# EAGLE library part ATTINY24A (library usb)
ATTiny24A ATTiny44A ATTiny84A
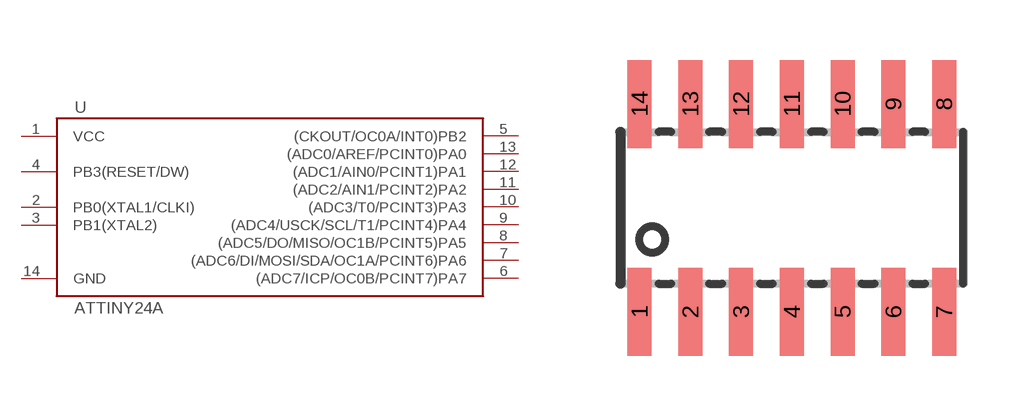
[diagram p0: symbol with the pads of SO14; footprint SO14]

Designator prefix U

## ATTINY24A-SU  [SO14]
1  VCC  pwr
2  PB0(XTAL1/CLKI)
3  PB1(XTAL2)
4  PB3(RESET/DW)
5  (CKOUT/OC0A/INT0)PB2
6  (ADC7/ICP/OC0B/PCINT7)PA7
7  (ADC6/DI/MOSI/SDA/OC1A/PCINT6)PA6
8  (ADC5/DO/MISO/OC1B/PCINT5)PA5
9  (ADC4/USCK/SCL/T1/PCINT4)PA4
10  (ADC3/T0/PCINT3)PA3
11  (ADC2/AIN1/PCINT2)PA2
12  (ADC1/AIN0/PCINT1)PA1
13  (ADC0/AREF/PCINT0)PA0
14  GND  pwr

## Footprint SO14 (pad centres in mm)
SMALL OUTLINE INTEGRATED CIRCUIT body 3.9 mm/JEDEC MS-012AC
smd 0.6 x 2.2: 1 -3.81,-2.6; 2 -2.54,-2.6; 3 -1.27,-2.6; 4 0,-2.6; 5 1.27,-2.6; 6 2.54,-2.6; 7 3.81,-2.6; 8 3.81,2.6; 9 2.54,2.6; 10 1.27,2.6; 11 0,2.6; 12 -1.27,2.6; 13 -2.54,2.6; 14 -3.81,2.6